# Altium schematic symbol library ADXL355.SchLib: 1 symbol
Pins are listed as number, name and electrical type; pins without a type are passive.

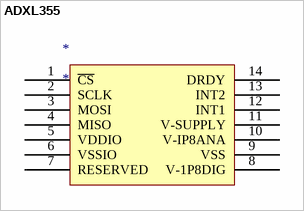
[diagram p0: symbol ADXL355]

## ADXL355
designator *
pins: 1 ~{CS}, 2 SCLK, 3 MOSI, 4 MISO, 5 VDDIO, 6 VSSIO, 7 RESERVED, 8 V-1P8DIG, 9 VSS, 10 V-IP8ANA, 11 V-SUPPLY, 12 INT1, 13 INT2, 14 DRDY